# Altium integrated library 691111710002 (Wire Terminal).IntLib: 1 symbol
Pins are listed as number, name and electrical type; pins without a type are passive.

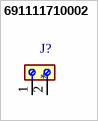
[diagram p0: symbol 691111710002]

## 691111710002
designator J?
2 Position Wire to Board Terminal Block Horizontal with Board 0.197 (5.00mm) Through Hole; MF: Wurth Electronics; MP: 691111710002; SnapEDA_Link: https://www.snapeda.com/parts/691111710002/Wurth+Electronics+Inc./view-part/?ref=snap; Package: None; Value: *; Check_prices: https://www.snapeda.com/parts/691111710002/Wurth+Electronics+Inc./view-part/?ref=eda
footprint 691111710002
pins: 1, 2